# EAGLE library part ECL82-P (library old Tubes)
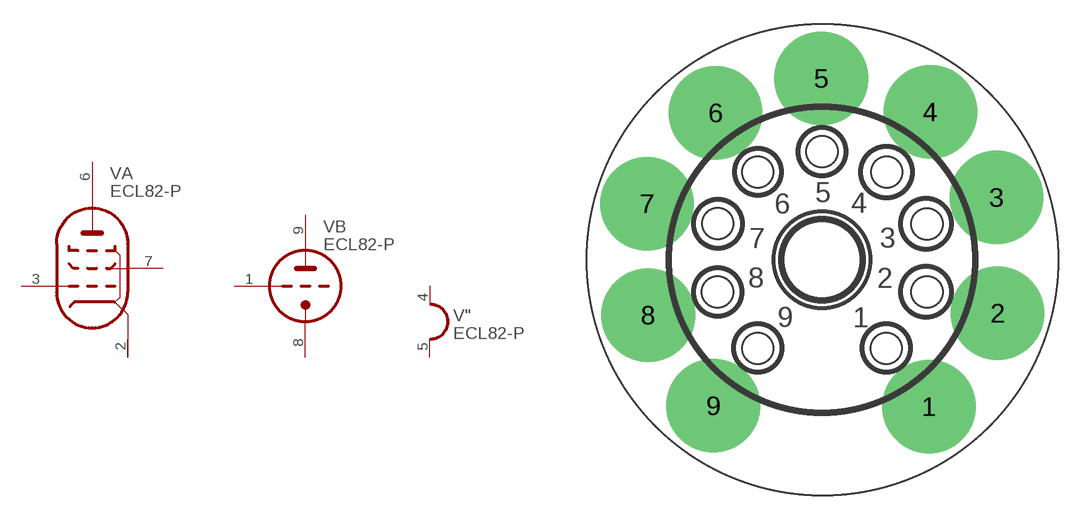
[diagram p6: symbol with the pads of NOVAL; footprint NOVAL]

Designator prefix V; gates A=PENTODE B=TRIODE "=HEATER_1

## ECL82-P  [NOVAL]
1  B:TG  pas
2  A:PK  pas
3  A:PG  pas
4  ":H1  pas
5  ":H2  pas
6  A:PA  pas
7  A:PSG  pas
8  B:TK  pas
9  B:TA  pas

## Footprint NOVAL (pad centres in mm)
drill 2 pad 5.842: 1 6.682,-9.176; 2 10.961,-3.335; 3 10.884,3.896; 4 6.763,9.239; 5 -0.047,11.334; 6 -6.646,9.182; 7 -10.936,3.508; 8 -10.847,-3.457; 9 -6.788,-9.12